# Altium schematic symbol library ICL_PCB_production.SchLib: 2 symbols
Pins are listed as number, name and electrical type; pins without a type are passive.

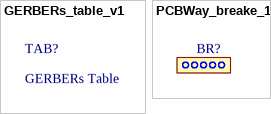
[diagram p0: symbols GERBERs_table_v1 to PCBWay_breake_1]

## GERBERs_table_v1
designator TAB?, comment GERBERs Table  (graphical)
footprint TABLE_GERBER_2L_v1

## PCBWay_breake_1
designator BR?, comment BR  (value not drawn)  (no BOM)
breake routing for PCB Way
footprint PCBWay_breake_1_1
footprint PCBWay_breake_1_2 (hole 0.3mm distance 0,55mm bridge 0,25mm)